# Altium schematic symbol library axsem_modules_v1-0.SCHLIB: 2 symbols
Pins are listed as number, name and electrical type; pins without a type are passive.

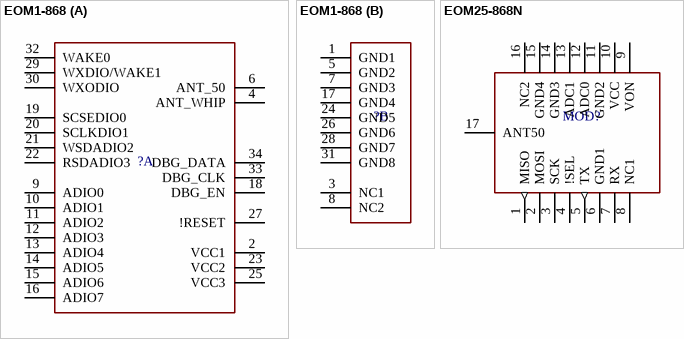
[diagram p0: symbols EOM1-868 to EOM25-868N]

## EOM1-868
designator ?
footprint EOM1-868-CON
part A pins: 2 VCC1 (power), 4 ANT_WHIP, 6 ANT_50, 9 ADIO0, 10 ADIO1, 11 ADIO2, 12 ADIO3, 13 ADIO4, 14 ADIO5, 15 ADIO6, 16 ADIO7, 18 DBG_EN, 19 SCSEDIO0, 20 SCLKDIO1, 21 WSDADIO2, 22 RSDADIO3, 23 VCC2 (power), 25 VCC3 (power), 27 !RESET, 29 WXDIO/WAKE1, 30 WXODIO, 32 WAKE0, 33 DBG_CLK, 34 DBG_DATA
part B pins: 1 GND1 (power), 3 NC1, 5 GND2 (power), 7 GND3 (power), 8 NC2, 17 GND4 (power), 24 GND5 (power), 26 GND6 (power), 28 GND7 (power), 31 GND8 (power)

## EOM25-868N
designator MOD?
footprint OOO-MOD-868-CON
pins: 1 MISO (out), 2 MOSI, 3 SCK, 4 !SEL, 5 TX (out), 6 GND1 (power), 7 RX, 8 NC1, 9 VON, 10 VCC (power), 11 GND2 (power), 12 ADC0, 13 ADC1, 14 GND3 (power), 15 GND4 (power), 16 NC2, 17 ANT50